# Altium schematic symbol library inductance.SchLib: 13 symbols
Pins are listed as number, name and electrical type; pins without a type are passive.

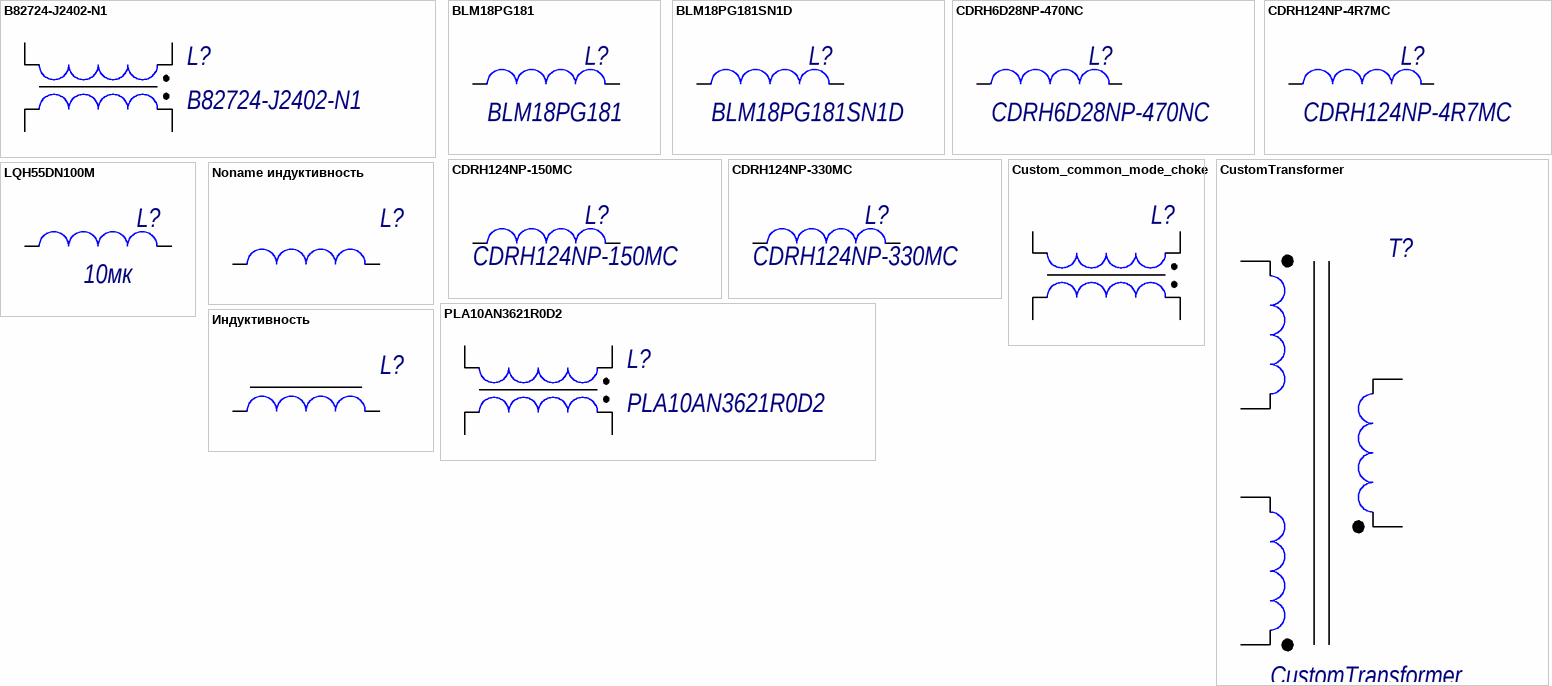
[diagram p0: symbols B82724-J2402-N1 to Индуктивность]

## B82724-J2402-N1
designator L?
Синфазный дроссель 3,3мГн 4А; Manufacturer: Epcos TDK; Inductance: 3,3мГн; Current: 4А; Name: B82724-J2402-N1
pins: 1, 2, 3, 4

## BLM18PG181
designator L?
Ферритовая бусина; Manufacturer: Murata; Name: BLM18PG181
footprint L0603 (Chip Inductor, 2-Leads, Body 1,60x0,80mm, IPC Medium Density)
pins: 1 3, 2 4

## BLM18PG181SN1D
designator L?
Ферритовая бусина 180Ом 1,5А; Manufacturer: Murata; Name: BLM18PG181SN1D
footprint L0603 (Chip Inductor, 2-Leads, Body 1,60x0,80mm, IPC Medium Density)
pins: 1 3, 2 4

## CDRH6D28NP-470NC
designator L?
Катушка с сердечником 47мкГн 0,8А; Value: 47мк; I saturation: 800мА; R: 0,238; Name: CDRH6D28NP-470NC
pins: 1 3, 2 4

## CDRH124NP-4R7MC
designator L?
Катушка с сердечником 4,7мкГн 0,8А; Value: 4,7мк; I saturation: 5,7А; R: 0,014; Name: CDRH124NP-4R7MC
footprint CDRH124
pins: 1 3, 2 4

## CDRH124NP-150MC
designator L?
Катушка с сердечником 15мкГн 3,2А; Value: 15мк; I saturation: 3,2; R: 0,050; Name: CDRH124NP-150MC
footprint CDRH124
pins: 1 3, 2 4

## CDRH124NP-330MC
designator L?
Катушка с сердечником 33мкГн 2,7А; I saturation: 2,7; R: 0,097; Value: 33мкГн; Name: CDRH124NP-330MC
footprint CDRH124
pins: 1 3, 2 4

## Custom_common_mode_choke
designator L?
Синфазный дроссель
pins: 1, 2, 3, 4

## CustomTransformer
designator T?
Трансформатор 2+1; Name: CustomTransformer; Value: *; I saturation: *
footprint B66422-W1010-D1
pins: 1, 2, 4, 5, 8, 10

## LQH55DN100M
designator L?  value 10мк  (hidden comment: LQH55DN100M)
Катушка индуктивности 10мкГн 1,7А; I saturation: 1,7А; R: 0,1302; Name: LQH55DN100M
pins: 1 3, 2 4

## Noname индуктивность
designator L?, comment -  (value not drawn)
Катушка; Name: -; Value: -; I saturation: -
footprint INDUCTION-12.2x12.2
pins: 1 3, 2 4

## PLA10AN3621R0D2
designator L?
Синфазный дроссель; Manufacturer: Epcos TDK; Current: 1А; Inductance: 3,6мГн; Name: PLA10AN3621R0D2
footprint PLA10 (синфазный дроссель murata)
pins: 1, 2, 3, 4

## Индуктивность
designator L?, comment -  (value not drawn)
Катушка с сердечником; Name: -; Value: -; I saturation: -
pins: 1 3, 2 4